# Altium schematic symbol library 6.1   - 场效应管-可控硅.SchLib: 17 symbols
Pins are listed as number, name and electrical type; pins without a type are passive.

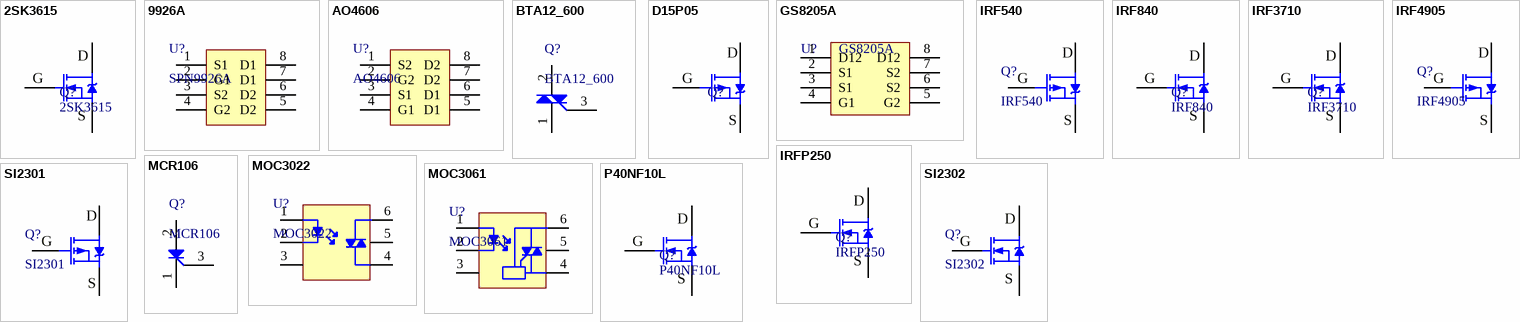
[diagram p0: symbols 2SK3615 to SI2302]

## 2SK3615
designator Q?
N沟场效应管; 版权归属: 源创客; BOM名称: N沟场效应管; 学习资源: www.ooocke.com
footprint TO252 (252晶体管)
footprint TO220A (220，3脚晶体管)
footprint TO220B (220，3脚晶体管)
footprint TO220C (220，3脚晶体管)
pins: 1 G, 2 D, 3 S

## 9926A
designator U?, comment SPN9926A
组合对场效应管; 版权归属: 源创客; BOM名称: 组合对场效应管; 学习资源: www.ooocke.com
footprint SOP8_L (5*6*1.8mm（长宽高）)
footprint SOP8_M (5*6*1.8mm（长宽高）)
footprint SOP8_N (5*6*1.8mm（长宽高）)
pins: 1 S1, 2 G1, 3 S2, 4 G2, 5 D2, 6 D2, 7 D1, 8 D1

## AO4606
designator U?
组合对场效应管; 版权归属: 源创客; BOM名称: 组合对场效应管; 学习资源: www.ooocke.com
footprint SOP8_L (5*6*1.8mm（长宽高）)
footprint SOP8_M (5*6*1.8mm（长宽高）)
footprint SOP8_N (5*6*1.8mm（长宽高）)
pins: 1 S2, 2 G2, 3 S1, 4 G1, 5 D1, 6 D1, 7 D2, 8 D2

## BTA12_600
designator Q?
双向可控硅; 版权归属: 源创客; BOM名称: 双向可控硅; 学习资源: www.ooocke.com
footprint TO220A (220，3脚晶体管)
footprint TO220B (220，3脚晶体管)
footprint TO252 (252晶体管)
footprint TO220C (220，3脚晶体管)
pins: 1 A1, 2 A2, 3 G

## D15P05
designator Q?  (value not drawn)
P沟道场效应管; 版权归属: 源创客; BOM名称: P沟道场效应管; 学习资源: www.ooocke.com
footprint TO252 (252晶体管)
footprint TO220A (220，3脚晶体管)
footprint TO220B (220，3脚晶体管)
footprint TO220C (220，3脚晶体管)
pins: 1 G, 2 D, 3 S

## GS8205A
designator U?
N沟道增强型功率场效应管; BOM名称: 场效应管; 版权归属: 源创客; 学习资源: www.ooocke.com
footprint SSOP8_N (3*6.4*1.2mm（长宽高）)
footprint SSOP8_L (3*6.4*1.2mm（长宽高）)
footprint SSOP8_M (3*6.4*1.2mm（长宽高）)
pins: 1 D12, 2 S1, 3 S1, 4 G1, 5 G2, 6 S2, 7 S2, 8 D12

## IRF540
designator Q?
P沟场效应管; 版权归属: 源创客; BOM名称: P沟场效应管; 学习资源: www.ooocke.com
footprint TO263-3A (263，3脚晶体管)
footprint TO263-3B (263，3脚晶体管)
pins: 1 G, 2 D, 3 S

## IRF840
designator Q?
N沟场效应管; 版权归属: 源创客; BOM名称: N沟场效应管; 学习资源: www.ooocke.com
footprint TO220A (220，3脚晶体管)
footprint TO220B (220，3脚晶体管)
footprint TO220C (220，3脚晶体管)
pins: 1 G, 2 D, 3 S

## IRF3710
designator Q?
N沟场效应管; 版权归属: 源创客; BOM名称: N沟场效应管; 学习资源: www.ooocke.com
footprint TO252 (252晶体管)
footprint TO220A (220，3脚晶体管)
footprint TO220B (220，3脚晶体管)
footprint TO220C (220，3脚晶体管)
pins: 1 G, 2 D, 3 S

## IRF4905
designator Q?
P沟场效应管; 版权归属: 源创客; BOM名称: P沟场效应管; 学习资源: www.ooocke.com
footprint TO220A (220，3脚晶体管)
footprint TO220B (220，3脚晶体管)
footprint TO220C (220，3脚晶体管)
pins: 1 G, 2 D, 3 S

## IRFP250
designator Q?
功率型N沟场效应管; 版权归属: 源创客; BOM名称: 功率型N沟场效应管; 学习资源: www.ooocke.com
footprint TO247A (247，3脚晶体管)
footprint TO247b (247，3脚晶体管)
pins: 1 G, 2 D, 3 S

## MCR106
designator Q?
单向可控硅; 版权归属: 源创客; BOM名称: 单向可控硅; 学习资源: www.ooocke.com
footprint TO126 (126晶体管)
pins: 1 K, 2 A, 3 G

## MOC3022
designator U?
光可控硅; 版权归属: 源创客; BOM名称: 光可控硅; 学习资源: www.ooocke.com
footprint DIP6-300 (6.8*7.6*3.8(长宽高）)
pins: 1 +, 2 -, 3 NC, 4, 5, 6

## MOC3061
designator U?
零点触发光可控硅; BOM名称: 光可控硅; 版权归属: 源创客; 学习资源: www.ooocke.com
footprint DIP6-300 (6.8*7.6*3.8(长宽高）)
pins: 1 +, 2 -, 3 NC, 4, 5, 6

## P40NF10L
designator Q?
N沟场效应管; 版权归属: 源创客; BOM名称: N沟场效应管; 学习资源: www.ooocke.com
footprint TO252 (252晶体管)
footprint TO220A (220，3脚晶体管)
footprint TO220B (220，3脚晶体管)
footprint TO220C (220，3脚晶体管)
pins: 1 G, 2 D, 3 S

## SI2301
designator Q?
P沟道场效应管; 版权归属: 源创客; BOM名称: P沟道场效应管; 学习资源: www.ooocke.com
footprint SOT23-3N (3x1.3x1mm(长宽高))
footprint SOT23-3L (3x1.3x1mm(长宽高))
footprint SOT23-3M (3x1.3x1mm(长宽高))
pins: 1 G, 2 S, 3 D

## SI2302
designator Q?
N沟道场效应管; 版权归属: 源创客; BOM名称: N沟道场效应管; 学习资源: www.ooocke.com
footprint SOT23-3N (3x1.3x1mm(长宽高))
footprint SOT23-3L (3x1.3x1mm(长宽高))
footprint SOT23-3M (3x1.3x1mm(长宽高))
pins: 1 G, 2 S, 3 D